# Altium footprint library st-microelectronics.PCBLIB: 49 footprints (part 1 of 4)
Each footprint in its own frame and in the unit in brackets; x right, y up, seen from the top. Pads: shape width x height; smd on the part's side, far side on the other; paste and mask are expansions set on the pad; w line width, h text height; cw(c..) or ccw(c..) is an arc to the next point about the centre after c.
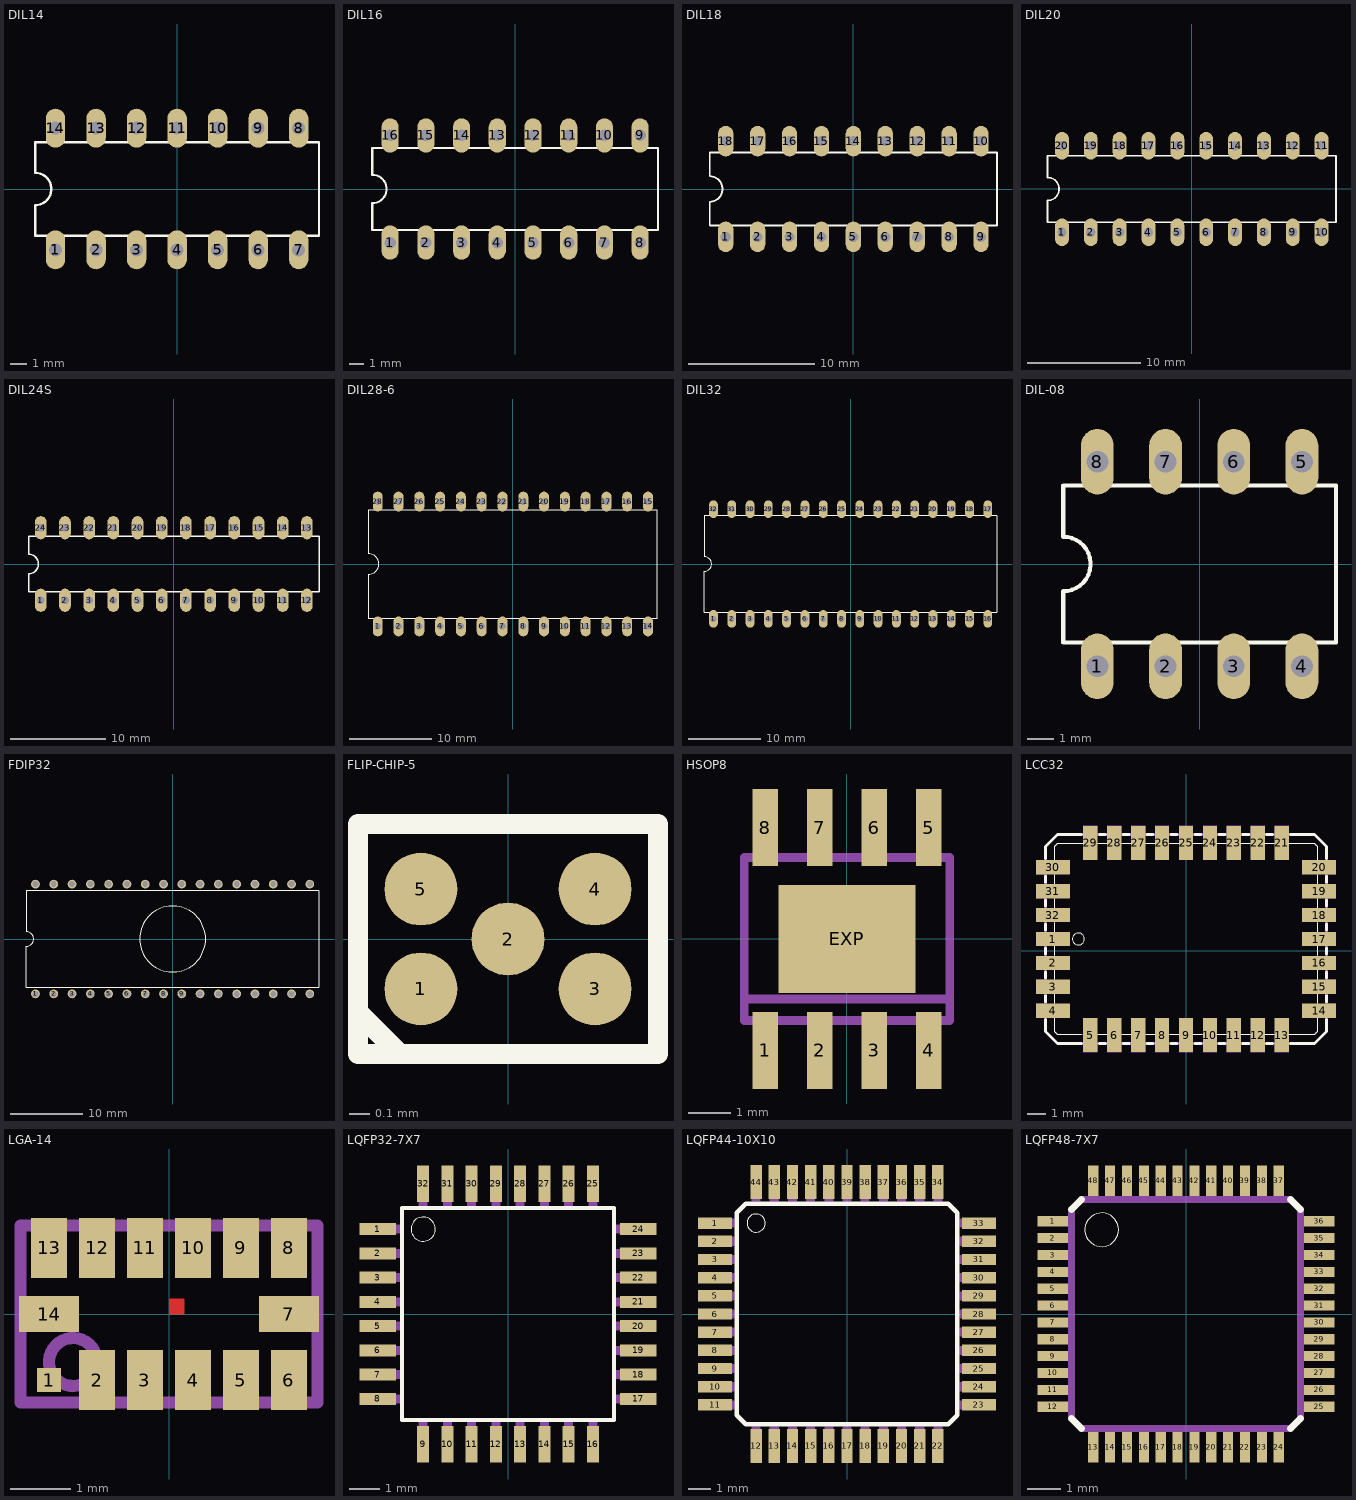
[diagram p0: the footprints below, top view; thin cyan lines are the x and y axes]

## DIL14 [mil]
pads (14):
  oval 48x96 hole 32: 1(-300,-150) 2(-200,-150) 3(-100,-150) 4(0,-150) 5(100,-150) 6(200,-150) 7(300,-150) 8(300,150) 9(200,150) 10(100,150) 11(0,150) 12(-100,150) 13(-200,150) 14(-300,150)
Top Overlay:
  lines w6: -350,-115 350,-115 350,115 -350,115 -350,40 cw(c-350,0) -350,-40 -350,-115

## DIL16 [mil]
pads (16):
  oval 48x96 hole 32: 1(-350,-150) 2(-250,-150) 3(-150,-150) 4(-50,-150) 5(50,-150) 6(150,-150) 7(250,-150) 8(350,-150) 9(350,150) 10(250,150) 11(150,150) 12(50,150) 13(-50,150) 14(-150,150) 15(-250,150) 16(-350,150)
Top Overlay:
  lines w6: -400,-115 400,-115 400,115 -400,115 -400,40 cw(c-400,0) -400,-40 -400,-115

## DIL18 [mil]
pads (18):
  oval 48x96 hole 32: 1(-400,-150) 2(-300,-150) 3(-200,-150) 4(-100,-150) 5(0,-150) 6(100,-150) 7(200,-150) 8(300,-150) 9(400,-150) 10(400,150) 11(300,150) 12(200,150) 13(100,150) 14(0,150) 15(-100,150) 16(-200,150) 17(-300,150) 18(-400,150)
Top Overlay:
  lines w6: -450,-115 450,-115 450,115 -450,115 -450,40 cw(c-450,0) -450,-40 -450,-115

## DIL20 [mil]
pads (20):
  oval 48x96 hole 32: 1(-450,-150) 2(-350,-150) 3(-250,-150) 4(-150,-150) 5(-50,-150) 6(50,-150) 7(150,-150) 8(250,-150) 9(350,-150) 10(450,-150) 11(450,150) 12(350,150) 13(250,150) 14(150,150) 15(50,150) 16(-50,150) 17(-150,150) 18(-250,150) 19(-350,150) 20(-450,150)
Top Overlay:
  lines w6: -500,-115 500,-115 500,115 -500,115 -500,40 cw(c-500,0) -500,-40 -500,-115

## DIL24S [mil]
pads (24):
  oval 48x96 hole 32: 1(-550,-150) 2(-450,-150) 3(-350,-150) 4(-250,-150) 5(-150,-150) 6(-50,-150) 7(50,-150) 8(150,-150) 9(250,-150) 10(350,-150) 11(450,-150) 12(550,-150) 13(550,150) 14(450,150) 15(350,150) 16(250,150) 17(150,150) 18(50,150) 19(-50,150) 20(-150,150) 21(-250,150) 22(-350,150) 23(-450,150) 24(-550,150)
Top Overlay:
  lines w6: -600,-115 600,-115 600,115 -600,115 -600,40 cw(c-600,0) -600,-40 -600,-115

## DIL28-6 [mil]
pads (28):
  oval 48x96 hole 32: 1(-650,-300) 2(-550,-300) 3(-450,-300) 4(-350,-300) 5(-250,-300) 6(-150,-300) 7(-50,-300) 8(50,-300) 9(150,-300) 10(250,-300) 11(350,-300) 12(450,-300) 13(550,-300) 14(650,-300) 15(650,300) 16(550,300) 17(450,300) 18(350,300) 19(250,300) 20(150,300) 21(50,300) 22(-50,300) 23(-150,300) 24(-250,300) 25(-350,300) 26(-450,300) 27(-550,300) 28(-650,300)
Top Overlay:
  lines w6: -695,-260 -695,-50 ccw(c-695,0) -695,50 -695,260 695,260 695,-260 -695,-260

## DIL32 [mil]
pads (32):
  oval 48x96 hole 32: 1(-750,-300) 2(-650,-300) 3(-550,-300) 4(-450,-300) 5(-350,-300) 6(-250,-300) 7(-150,-300) 8(-50,-300) 9(50,-300) 10(150,-300) 11(250,-300) 12(350,-300) 13(450,-300) 14(550,-300) 15(650,-300) 16(750,-300) 17(750,300) 18(650,300) 19(550,300) 20(450,300) 21(350,300) 22(250,300) 23(150,300) 24(50,300) 25(-50,300) 26(-150,300) 27(-250,300) 28(-350,300) 29(-450,300) 30(-550,300) 31(-650,300) 32(-750,300)
Top Overlay:
  lines w6: -800,-265 800,-265 800,265 -800,265 -800,40 cw(c-800,0) -800,-40 -800,-265

## DIL-08 [mil]
pads (8):
  oval 48x96 hole 32: 1(-150,-150) 2(-50,-150) 3(50,-150) 4(150,-150) 5(150,150) 6(50,150) 7(-50,150) 8(-150,150)
Top Overlay:
  lines w6: -200,-115 200,-115 200,115 -200,115 -200,40 cw(c-200,0) -200,-40 -200,-115

## FDIP32 [mil]
pads (32):
  round 48 hole 32: 1(-750,-300) 2(-650,-300) 3(-550,-300) 4(-450,-300) 5(-350,-300) 6(-250,-300) 7(-150,-300) 8(-50,-300) 9(50,-300) 10(150,-300) 11(250,-300) 12(350,-300) 13(450,-300) 14(550,-300) 15(650,-300) 16(750,-300) 17(750,300) 18(650,300) 19(550,300) 20(450,300) 21(350,300) 22(250,300) 23(150,300) 24(50,300) 25(-50,300) 26(-150,300) 27(-250,300) 28(-350,300) 29(-450,300) 30(-550,300) 31(-650,300) 32(-750,300)
Top Overlay:
  circle w0: c0,0 r180.28
  lines w6: -800,-265 800,-265 800,265 -800,265 -800,40 cw(c-800,0) -800,-40 -800,-265

## FLIP-CHIP-5 [mm]
pads (5):
  rrect100% 0.365x0.365 smd: 1(-0.435,-0.25) 2(0,0) 3(0.435,-0.25) 4(0.435,0.25) 5(-0.435,0.25)
Top Overlay:
  lines w0.102: -0.55,-0.567 -0.75,-0.368 ; -0.75,-0.368 -0.75,-0.575 0.75,-0.575 0.75,0.575 -0.75,0.575 -0.75,-0.368
Top Solder:
  circle w0: c0,0 r0.213
  circle w0: c0.435,0.25 r0.213
  circle w0: c0.435,-0.25 r0.213
  circle w0: c-0.435,0.25 r0.213
  circle w0: c-0.435,-0.25 r0.213

## HSOP8 [mil]
pads (9):
  rect 23.62x70.87 smd: 1(-75,-102.36) 2(-25,-102.36) 3(25,-102.36) 4(75,-102.36) 5(75,102.36) 6(25,102.36) 7(-25,102.36) 8(-75,102.36)
  rect 125.98x98.82 smd: EXP(0,0)
Mechanical 16:
  rectangle: -84.65,-122.05 -65.35,-78.74
  rectangle: -34.65,-122.05 -15.35,-78.74
  rectangle: 15.35,-122.05 34.65,-78.74
  rectangle: 65.35,-122.05 84.65,-78.74
  rectangle: 65.35,78.74 84.65,122.05
  rectangle: 15.35,78.74 34.65,122.05
  rectangle: -34.65,78.74 -15.35,122.05
  rectangle: -84.65,78.74 -65.35,122.05
  lines w8: -94.49,-55.12 -94.49,-74.8 94.49,-74.8 94.49,-55.12 ; -94.49,-55.12 -94.49,74.8 94.49,74.8 94.49,-55.12 ; -94.49,-55.12 94.49,-55.12

## LCC32 [mil]
pads (32):
  rect 70.87x29.92 smd: 1(-278.35,25) 2(-278.35,-25) 3(-278.35,-75) 4(-278.35,-125) 14(278.35,-125) 15(278.35,-75) 16(278.35,-25) 17(278.35,25) 18(278.35,75) 19(278.35,125) 20(278.35,175) 30(-278.35,175) 31(-278.35,125) 32(-278.35,75)
  rect 29.92x70.87 smd: 5(-200,-175.98) 6(-150,-175.98) 7(-100,-175.98) 8(-50,-175.98) 9(0,-175.98) 10(50,-175.98) 11(100,-175.98) 12(150,-175.98) 13(200,-175.98) 21(200,225.98) 22(150,225.98) 23(100,225.98) 24(50,225.98) 25(0,225.98) 26(-50,225.98) 27(-100,225.98) 28(-150,225.98) 29(-200,225.98)
Top Overlay:
  circle w2: c-225,25 r12.5
  lines w2: -275,-140.63 -275,-168.74 -268.74,-175 -218.74,-175 ; -275,-109.37 -275,-90.63 ; -275,-59.37 -275,-40.63 ; -275,-9.37 -275,9.37 ; -275,40.63 -275,59.37 ; -275,90.63 -275,109.37 ; -275,140.63 -275,159.37 ; -275,190.63 -275,218.74 -268.74,225 -215.63,225 ; -184.37,-175 -165.63,-175 ; -184.37,225 -165.63,225 ; -134.37,-175 -115.63,-175 ; -134.37,225 -115.63,225 ; -84.37,-175 -65.63,-175 ; -84.37,225 -65.63,225 ; -34.37,-175 -15.63,-175 ; -34.37,225 -15.63,225 ; 15.63,-175 34.37,-175 ; 15.63,225 34.37,225 ; 65.63,-175 84.37,-175 ; 65.63,225 84.37,225 ; 115.63,-175 134.37,-175 ; 115.63,225 134.37,225 ; 165.63,-175 184.37,-175 ; 165.63,225 184.37,225 ; 215.63,-175 268.74,-175 275,-168.74 275,-140.63 ; 215.63,225 268.74,225 275,218.74 275,190.63 ; 275,-109.37 275,-90.63 ; 275,-59.37 275,-40.63 ; 275,-9.37 275,9.37 ; 275,40.63 275,59.37 ; 275,90.63 275,109.37 ; 275,140.63 275,159.37
  lines w6: -293.74,-143.74 -293.74,-168.74 -268.74,-193.74 -218.74,-193.74 ; -293.74,-106.26 -293.74,-93.74 ; -293.74,-56.26 -293.74,-43.74 ; -293.74,-6.26 -293.75,6.25 ; -293.74,43.74 -293.75,56.25 ; -293.74,93.74 -293.75,106.25 ; -293.74,143.74 -293.75,156.25 ; -293.75,193.75 -293.75,218.75 -268.75,243.75 -218.75,243.75 ; -181.26,-193.74 -168.74,-193.74 ; -181.25,243.75 -168.75,243.75 ; -131.26,-193.74 -118.74,-193.74 ; -131.25,243.75 -118.75,243.75 ; -81.26,-193.74 -68.74,-193.74 ; -81.25,243.75 -68.75,243.75 ; -31.26,-193.74 -18.74,-193.74 ; -31.25,243.75 -18.75,243.75 ; 18.75,-193.75 31.25,-193.75 ; 18.74,243.74 31.26,243.74 ; 68.75,-193.75 81.25,-193.75 ; 68.74,243.74 81.26,243.74 ; 118.75,-193.75 131.25,-193.75 ; 118.74,243.74 131.26,243.74 ; 168.75,-193.75 181.25,-193.75 ; 168.74,243.74 181.26,243.74 ; 218.75,-193.75 268.75,-193.75 293.75,-168.75 293.75,-143.75 ; 218.74,243.74 268.74,243.74 293.74,218.74 293.74,193.74 ; 293.75,-106.25 293.75,-93.75 ; 293.75,-56.25 293.75,-43.75 ; 293.75,-6.25 293.74,6.26 ; 293.75,43.75 293.74,56.26 ; 293.75,93.75 293.74,106.26 ; 293.75,143.75 293.74,156.26
Mechanical 16:
  rectangle: -114.96,244.88 -85.04,262.6
  rectangle: -64.96,244.88 -35.04,262.6
  rectangle: -14.96,244.88 14.96,262.6
  rectangle: 35.04,244.88 64.96,262.6
  rectangle: 85.04,244.88 114.96,262.6
  rectangle: -114.96,-212.6 -85.04,-194.88
  rectangle: -64.96,-212.6 -35.04,-194.88
  rectangle: -14.96,-212.6 14.96,-194.88
  rectangle: 35.04,-212.6 64.96,-194.88
  rectangle: 85.04,-212.6 114.96,-194.88
  rectangle: 296.06,110.04 313.78,139.96
  rectangle: 296.06,10.04 313.78,39.96
  rectangle: 296.06,-39.96 313.78,-10.04
  rectangle: 296.06,-89.96 313.78,-60.04
  rectangle: -313.78,110.04 -296.06,139.96
  rectangle: -313.78,10.04 -296.06,39.96
  rectangle: -313.78,-39.96 -296.06,-10.04
  rectangle: -313.78,-89.96 -296.06,-60.04
  rectangle: 135.04,244.88 164.96,262.6
  rectangle: 135.04,-212.6 164.96,-194.88
  rectangle: -214.96,244.88 -185.04,262.6
  rectangle: -164.96,244.88 -135.04,262.6
  rectangle: -214.96,-212.6 -185.04,-194.88
  rectangle: -164.96,-212.6 -135.04,-194.88
  rectangle: 296.06,60.04 313.78,89.96
  rectangle: -313.78,60.04 -296.06,89.96
  rectangle: 185.04,244.88 214.96,262.6
  rectangle: 185.04,-212.6 214.96,-194.88
  rectangle: 296.06,160.04 313.78,189.96
  rectangle: -313.78,160.04 -296.06,189.96
  rectangle: 296.06,-139.96 313.78,-110.04
  rectangle: -313.78,-139.96 -296.06,-110.04
  lines w2: -275,-168.74 -268.74,-175 268.74,-175 275,-168.74 275,218.74 268.74,225 -268.74,225 -275,218.74 -275,-168.74
  lines w6: 37.4,244.88 62.6,244.88 ; 87.4,244.88 112.6,244.88 ; 137.4,244.88 162.6,244.88 ; 187.4,244.88 212.6,244.88 ; -293.74,-168.74 -268.74,-193.74 268.75,-193.75 293.75,-168.75 293.74,218.74 268.74,243.74 -268.75,243.75 -293.75,218.75 -293.74,-168.74

## LGA-14 [mm]
pads (14):
  rect 0.4x0.4 smd: 1(-2,-1.1)
  rect 0.6x1 smd: 2(-1.2,-1.1) 3(-0.4,-1.1) 4(0.4,-1.1) 5(1.2,-1.1) 6(2,-1.1) 8(2,1.1) 9(1.2,1.1) 10(0.4,1.1) 11(-0.4,1.1) 12(-1.2,1.1) 13(-2,1.1)
  rect 1x0.6 smd: 7(2,0) 14(-2,0)
Top Layer:
  region: 0,0 0.254,0 0.254,0.254 0,0.254
Top Paste:
  rectangle: -2.25,-1.5 -1.75,-0.7
  rectangle: -2.4,-0.25 -1.6,0.25
  rectangle: -1.45,-1.5 -0.95,-0.7
  rectangle: -0.65,-1.5 -0.15,-0.7
  rectangle: 0.15,-1.5 0.65,-0.7
  rectangle: 0.95,-1.5 1.45,-0.7
  rectangle: 1.75,-1.5 2.25,-0.7
  region: 2.25,1.5 1.75,1.5 1.75,0.7 2.25,0.7
  region: 1.45,1.5 0.95,1.5 0.95,0.7 1.45,0.7
  region: 0.65,1.5 0.15,1.5 0.15,0.7 0.65,0.7
  region: -0.15,1.5 -0.65,1.5 -0.65,0.7 -0.15,0.7
  region: -0.95,1.5 -1.45,1.5 -1.45,0.7 -0.95,0.7
  region: -1.75,1.5 -2.25,1.5 -2.25,0.7 -1.75,0.7
  region: 2.4,0.25 1.6,0.25 1.6,-0.25 2.4,-0.25
Top Solder:
  rectangle: -1.55,-1.65 -0.85,-0.55
  rectangle: -0.75,-1.65 -0.05,-0.55
  rectangle: 0.05,-1.65 0.75,-0.55
  rectangle: 0.85,-1.65 1.55,-0.55
  rectangle: 1.65,-1.65 2.35,-0.55
  region: 2.35,1.65 1.65,1.65 1.65,0.55 2.35,0.55
  region: 1.55,1.65 0.85,1.65 0.85,0.55 1.55,0.55
  region: 0.75,1.65 0.05,1.65 0.05,0.55 0.75,0.55
  region: -0.05,1.65 -0.75,1.65 -0.75,0.55 -0.05,0.55
  region: -0.85,1.65 -1.55,1.65 -1.55,0.55 -0.85,0.55
  region: -1.65,1.65 -2.35,1.65 -2.35,0.55 -1.65,0.55
  region: 1.45,0.35 1.45,-0.35 2.55,-0.35 2.55,0.35
  region: -1.45,-0.35 -1.45,0.35 -2.55,0.35 -2.55,-0.35
  region: 0,0 0.254,0 0.254,0.254 0,0.254
Mechanical 16:
  circle w0.203: c-1.6,-0.8 r0.4
  lines w0.203: -2.475,-1.475 2.475,-1.475 2.475,1.475 -2.475,1.475 -2.475,-1.475

## LQFP32-7X7 [mm]
pads (32):
  rect 1.2x0.4 smd: 1(-4.3,2.8) 2(-4.3,2) 3(-4.3,1.2) 4(-4.3,0.4) 5(-4.3,-0.4) 6(-4.3,-1.2) 7(-4.3,-2) 8(-4.3,-2.8) 17(4.3,-2.8) 18(4.3,-2) 19(4.3,-1.2) 20(4.3,-0.4) 21(4.3,0.4) 22(4.3,1.2) 23(4.3,2) 24(4.3,2.8)
  rect 0.4x1.2 smd: 9(-2.8,-4.3) 10(-2,-4.3) 11(-1.2,-4.3) 12(-0.4,-4.3) 13(0.4,-4.3) 14(1.2,-4.3) 15(2,-4.3) 16(2.8,-4.3) 25(2.8,4.3) 26(2,4.3) 27(1.2,4.3) 28(0.4,4.3) 29(-0.4,4.3) 30(-1.2,4.3) 31(-2,4.3) 32(-2.8,4.3)
Top Overlay:
  circle w0: c-2.8,2.8 r0.4
  lines w0.127: -3.5,-3.5 3.5,-3.5 3.5,3.5 -3.5,3.5 -3.5,-3.5
Top Paste:
  rectangle: -4.875,2.625 -3.725,2.975
  rectangle: -4.875,1.825 -3.725,2.175
  rectangle: -4.875,1.025 -3.725,1.375
  rectangle: -4.875,0.225 -3.725,0.575
  rectangle: -4.875,-0.575 -3.725,-0.225
  rectangle: -4.875,-1.375 -3.725,-1.025
  rectangle: -4.875,-2.175 -3.725,-1.825
  rectangle: -4.875,-2.975 -3.725,-2.625
  region: -2.625,-4.875 -2.625,-3.725 -2.975,-3.725 -2.975,-4.875
  region: -1.825,-4.875 -1.825,-3.725 -2.175,-3.725 -2.175,-4.875
  region: -1.025,-4.875 -1.025,-3.725 -1.375,-3.725 -1.375,-4.875
  region: -0.225,-4.875 -0.225,-3.725 -0.575,-3.725 -0.575,-4.875
  region: 0.575,-4.875 0.575,-3.725 0.225,-3.725 0.225,-4.875
  region: 1.375,-4.875 1.375,-3.725 1.025,-3.725 1.025,-4.875
  region: 2.175,-4.875 2.175,-3.725 1.825,-3.725 1.825,-4.875
  region: 2.975,-4.875 2.975,-3.725 2.625,-3.725 2.625,-4.875
  region: 4.875,-2.625 3.725,-2.625 3.725,-2.975 4.875,-2.975
  region: 4.875,-1.825 3.725,-1.825 3.725,-2.175 4.875,-2.175
  region: 4.875,-1.025 3.725,-1.025 3.725,-1.375 4.875,-1.375
  region: 4.875,-0.225 3.725,-0.225 3.725,-0.575 4.875,-0.575
  region: 4.875,0.575 3.725,0.575 3.725,0.225 4.875,0.225
  region: 4.875,1.375 3.725,1.375 3.725,1.025 4.875,1.025
  region: 4.875,2.175 3.725,2.175 3.725,1.825 4.875,1.825
  region: 4.875,2.975 3.725,2.975 3.725,2.625 4.875,2.625
  region: 2.625,4.875 2.625,3.725 2.975,3.725 2.975,4.875
  region: 1.825,4.875 1.825,3.725 2.175,3.725 2.175,4.875
  region: 1.025,4.875 1.025,3.725 1.375,3.725 1.375,4.875
  region: 0.225,4.875 0.225,3.725 0.575,3.725 0.575,4.875
  region: -0.575,4.875 -0.575,3.725 -0.225,3.725 -0.225,4.875
  region: -1.375,4.875 -1.375,3.725 -1.025,3.725 -1.025,4.875
  region: -2.175,4.875 -2.175,3.725 -1.825,3.725 -1.825,4.875
  region: -2.975,4.875 -2.975,3.725 -2.625,3.725 -2.625,4.875
Top Solder:
  rectangle: -4.95,2.55 -3.65,3.05
  rectangle: -4.95,1.75 -3.65,2.25
  rectangle: -4.95,0.95 -3.65,1.45
  rectangle: -4.95,0.15 -3.65,0.65
  rectangle: -4.95,-0.65 -3.65,-0.15
  rectangle: -4.95,-1.45 -3.65,-0.95
  rectangle: -4.95,-2.25 -3.65,-1.75
  rectangle: -4.95,-3.05 -3.65,-2.55
  region: -2.55,-4.95 -2.55,-3.65 -3.05,-3.65 -3.05,-4.95
  region: -1.75,-4.95 -1.75,-3.65 -2.25,-3.65 -2.25,-4.95
  region: -0.95,-4.95 -0.95,-3.65 -1.45,-3.65 -1.45,-4.95
  region: -0.15,-4.95 -0.15,-3.65 -0.65,-3.65 -0.65,-4.95
  region: 0.65,-4.95 0.65,-3.65 0.15,-3.65 0.15,-4.95
  region: 1.45,-4.95 1.45,-3.65 0.95,-3.65 0.95,-4.95
  region: 2.25,-4.95 2.25,-3.65 1.75,-3.65 1.75,-4.95
  region: 3.05,-4.95 3.05,-3.65 2.55,-3.65 2.55,-4.95
  region: 4.95,-2.55 3.65,-2.55 3.65,-3.05 4.95,-3.05
  region: 4.95,-1.75 3.65,-1.75 3.65,-2.25 4.95,-2.25
  region: 4.95,-0.95 3.65,-0.95 3.65,-1.45 4.95,-1.45
  region: 4.95,-0.15 3.65,-0.15 3.65,-0.65 4.95,-0.65
  region: 4.95,0.65 3.65,0.65 3.65,0.15 4.95,0.15
  region: 4.95,1.45 3.65,1.45 3.65,0.95 4.95,0.95
  region: 4.95,2.25 3.65,2.25 3.65,1.75 4.95,1.75
  region: 4.95,3.05 3.65,3.05 3.65,2.55 4.95,2.55
  region: 2.55,4.95 2.55,3.65 3.05,3.65 3.05,4.95
  region: 1.75,4.95 1.75,3.65 2.25,3.65 2.25,4.95
  region: 0.95,4.95 0.95,3.65 1.45,3.65 1.45,4.95
  region: 0.15,4.95 0.15,3.65 0.65,3.65 0.65,4.95
  region: -0.65,4.95 -0.65,3.65 -0.15,3.65 -0.15,4.95
  region: -1.45,4.95 -1.45,3.65 -0.95,3.65 -0.95,4.95
  region: -2.25,4.95 -2.25,3.65 -1.75,3.65 -1.75,4.95
  region: -3.05,4.95 -3.05,3.65 -2.55,3.65 -2.55,4.95
Mechanical 16:
  rectangle: -4.5,2.65 -3.525,2.95
  rectangle: -4.5,1.85 -3.525,2.15
  rectangle: -4.5,1.05 -3.525,1.35
  rectangle: -4.5,0.25 -3.525,0.55
  rectangle: -4.5,-0.55 -3.525,-0.25
  rectangle: -4.5,-1.35 -3.525,-1.05
  rectangle: -4.5,-2.15 -3.525,-1.85
  rectangle: -4.5,-2.95 -3.525,-2.65
  region: -2.65,-4.5 -2.65,-3.525 -2.95,-3.525 -2.95,-4.5
  region: -1.85,-4.5 -1.85,-3.525 -2.15,-3.525 -2.15,-4.5
  region: -1.05,-4.5 -1.05,-3.525 -1.35,-3.525 -1.35,-4.5
  region: -0.25,-4.5 -0.25,-3.525 -0.55,-3.525 -0.55,-4.5
  region: 0.55,-4.5 0.55,-3.525 0.25,-3.525 0.25,-4.5
  region: 1.35,-4.5 1.35,-3.525 1.05,-3.525 1.05,-4.5
  region: 2.15,-4.5 2.15,-3.525 1.85,-3.525 1.85,-4.5
  region: 2.95,-4.5 2.95,-3.525 2.65,-3.525 2.65,-4.5
  region: 4.5,-2.65 3.525,-2.65 3.525,-2.95 4.5,-2.95
  region: 4.5,-1.85 3.525,-1.85 3.525,-2.15 4.5,-2.15
  region: 4.5,-1.05 3.525,-1.05 3.525,-1.35 4.5,-1.35
  region: 4.5,-0.25 3.525,-0.25 3.525,-0.55 4.5,-0.55
  region: 4.5,0.55 3.525,0.55 3.525,0.25 4.5,0.25
  region: 4.5,1.35 3.525,1.35 3.525,1.05 4.5,1.05
  region: 4.5,2.15 3.525,2.15 3.525,1.85 4.5,1.85
  region: 4.5,2.95 3.525,2.95 3.525,2.65 4.5,2.65
  region: 2.65,4.5 2.65,3.525 2.95,3.525 2.95,4.5
  region: 1.85,4.5 1.85,3.525 2.15,3.525 2.15,4.5
  region: 1.05,4.5 1.05,3.525 1.35,3.525 1.35,4.5
  region: 0.25,4.5 0.25,3.525 0.55,3.525 0.55,4.5
  region: -0.55,4.5 -0.55,3.525 -0.25,3.525 -0.25,4.5
  region: -1.35,4.5 -1.35,3.525 -1.05,3.525 -1.05,4.5
  region: -2.15,4.5 -2.15,3.525 -1.85,3.525 -1.85,4.5
  region: -2.95,4.5 -2.95,3.525 -2.65,3.525 -2.65,4.5

## LQFP44-10X10 [mil]
pads (44):
  rect 59.06x19.69 smd: 1(-228.35,157.48) 2(-228.35,125.98) 3(-228.35,94.49) 4(-228.35,62.99) 5(-228.35,31.5) 6(-228.35,0) 7(-228.35,-31.5) 8(-228.35,-62.99) 9(-228.35,-94.49) 10(-228.35,-125.98) 11(-228.35,-157.48) 23(228.35,-157.48) 24(228.35,-125.98) 25(228.35,-94.49) 26(228.35,-62.99) 27(228.35,-31.5) 28(228.35,0) 29(228.35,31.5) 30(228.35,62.99) 31(228.35,94.49) 32(228.35,125.98) 33(228.35,157.48)
  rect 19.69x59.06 smd: 12(-157.48,-228.35) 13(-125.98,-228.35) 14(-94.49,-228.35) 15(-62.99,-228.35) 16(-31.5,-228.35) 17(0,-228.35) 18(31.5,-228.35) 19(62.99,-228.35) 20(94.49,-228.35) 21(125.98,-228.35) 22(157.48,-228.35) 34(157.48,228.35) 35(125.98,228.35) 36(94.49,228.35) 37(62.99,228.35) 38(31.5,228.35) 39(0,228.35) 40(-31.5,228.35) 41(-62.99,228.35) 42(-94.49,228.35) 43(-125.98,228.35) 44(-157.48,228.35)
Top Overlay:
  circle w0: c-157.48,157.48 r15.75
  lines w8: -190.94,-175.2 -175.2,-190.94 175.2,-190.94 190.94,-175.2 190.94,175.2 175.2,190.94 -175.2,190.94 -190.94,175.2 -190.94,-175.2
Top Paste:
  rectangle: -255.91,148.62 -200.79,166.34
  rectangle: -255.91,117.13 -200.79,134.84
  rectangle: -255.91,85.63 -200.79,103.35
  rectangle: -255.91,54.13 -200.79,71.85
  rectangle: -255.91,22.64 -200.79,40.35
  rectangle: -255.91,-8.86 -200.79,8.86
  rectangle: -255.91,-40.35 -200.79,-22.64
  rectangle: -255.91,-71.85 -200.79,-54.13
  rectangle: -255.91,-103.35 -200.79,-85.63
  rectangle: -255.91,-134.84 -200.79,-117.13
  rectangle: -255.91,-166.34 -200.79,-148.62
  region: -148.62,-255.91 -148.62,-200.78 -166.33,-200.78 -166.33,-255.91
  region: -117.13,-255.9 -117.13,-200.79 -134.84,-200.79 -134.84,-255.9
  region: -85.64,-255.91 -85.64,-200.78 -103.34,-200.78 -103.34,-255.91
  region: -54.14,-255.91 -54.14,-200.78 -71.84,-200.78 -71.84,-255.91
  region: -22.65,-255.91 -22.65,-200.78 -40.35,-200.78 -40.35,-255.91
  region: 8.85,-255.91 8.85,-200.78 -8.85,-200.78 -8.85,-255.91
  region: 40.35,-255.91 40.35,-200.78 22.65,-200.78 22.65,-255.91
  region: 71.84,-255.91 71.84,-200.78 54.14,-200.78 54.14,-255.91
  region: 103.34,-255.91 103.34,-200.78 85.64,-200.78 85.64,-255.91
  region: 134.84,-255.9 134.84,-200.79 117.13,-200.79 117.13,-255.9
  region: 166.33,-255.91 166.33,-200.78 148.62,-200.78 148.62,-255.91
  region: 255.91,-148.62 200.79,-148.62 200.79,-166.34 255.91,-166.34
  region: 255.91,-117.13 200.79,-117.13 200.79,-134.84 255.91,-134.84
  region: 255.91,-85.63 200.79,-85.63 200.79,-103.35 255.91,-103.35
  region: 255.91,-54.13 200.79,-54.13 200.79,-71.85 255.91,-71.85
  region: 255.91,-22.64 200.79,-22.64 200.79,-40.35 255.91,-40.35
  region: 255.91,8.86 200.79,8.86 200.79,-8.86 255.91,-8.86
  region: 255.91,40.35 200.79,40.35 200.79,22.64 255.91,22.64
  region: 255.91,71.85 200.79,71.85 200.79,54.13 255.91,54.13
  region: 255.91,103.35 200.79,103.35 200.79,85.63 255.91,85.63
  region: 255.91,134.84 200.79,134.84 200.79,117.13 255.91,117.13
  region: 255.91,166.34 200.79,166.34 200.79,148.62 255.91,148.62
  region: 148.62,255.91 148.62,200.78 166.33,200.78 166.33,255.91
  region: 117.13,255.9 117.13,200.79 134.84,200.79 134.84,255.9
  region: 85.64,255.91 85.64,200.78 103.34,200.78 103.34,255.91
  region: 54.14,255.91 54.13,200.78 71.84,200.78 71.84,255.91
  region: 22.65,255.91 22.65,200.78 40.35,200.78 40.35,255.91
  region: -8.85,255.91 -8.85,200.78 8.85,200.78 8.85,255.91
  region: -40.35,255.91 -40.35,200.78 -22.65,200.78 -22.65,255.91
  region: -71.84,255.91 -71.84,200.78 -54.14,200.78 -54.13,255.91
  region: -103.34,255.91 -103.34,200.78 -85.64,200.78 -85.64,255.91
  region: -134.84,255.9 -134.84,200.79 -117.13,200.79 -117.13,255.9
  region: -166.33,255.91 -166.33,200.78 -148.62,200.78 -148.62,255.91
Top Solder:
  rectangle: -259.84,145.67 -196.85,169.29
  rectangle: -259.84,114.17 -196.85,137.8
  rectangle: -259.84,82.68 -196.85,106.3
  rectangle: -259.84,51.18 -196.85,74.8
  rectangle: -259.84,19.69 -196.85,43.31
  rectangle: -259.84,-11.81 -196.85,11.81
  rectangle: -259.84,-43.31 -196.85,-19.69
  rectangle: -259.84,-74.8 -196.85,-51.18
  rectangle: -259.84,-106.3 -196.85,-82.68
  rectangle: -259.84,-137.8 -196.85,-114.17
  rectangle: -259.84,-169.29 -196.85,-145.67
  region: -145.67,-259.85 -145.67,-196.85 -169.29,-196.85 -169.29,-259.85
  region: -114.17,-259.84 -114.17,-196.85 -137.79,-196.85 -137.79,-259.84
  region: -82.67,-259.84 -82.67,-196.85 -106.3,-196.85 -106.3,-259.84
  region: -51.18,-259.84 -51.18,-196.85 -74.81,-196.85 -74.81,-259.84
  region: -19.69,-259.84 -19.68,-196.85 -43.3,-196.85 -43.31,-259.84
  region: 11.81,-259.85 11.81,-196.85 -11.81,-196.85 -11.81,-259.85
  region: 43.3,-259.84 43.31,-196.85 19.69,-196.85 19.68,-259.84
  region: 74.81,-259.84 74.81,-196.85 51.18,-196.85 51.18,-259.84
  region: 106.3,-259.84 106.3,-196.85 82.67,-196.85 82.67,-259.84
  region: 137.79,-259.84 137.79,-196.85 114.17,-196.85 114.17,-259.84
  region: 169.29,-259.85 169.29,-196.85 145.67,-196.85 145.67,-259.85
  region: 259.84,-145.67 196.85,-145.67 196.85,-169.29 259.84,-169.29
  region: 259.84,-114.17 196.85,-114.17 196.85,-137.8 259.84,-137.8
  region: 259.84,-82.68 196.85,-82.68 196.85,-106.3 259.84,-106.3
  region: 259.84,-51.18 196.85,-51.18 196.85,-74.8 259.84,-74.8
  region: 259.84,-19.69 196.85,-19.69 196.85,-43.31 259.84,-43.31
  region: 259.84,11.81 196.85,11.81 196.85,-11.81 259.84,-11.81
  region: 259.84,43.31 196.85,43.31 196.85,19.69 259.84,19.69
  region: 259.84,74.8 196.85,74.8 196.85,51.18 259.84,51.18
  region: 259.84,106.3 196.85,106.3 196.85,82.68 259.84,82.68
  region: 259.84,137.8 196.85,137.8 196.85,114.17 259.84,114.17
  region: 259.84,169.29 196.85,169.29 196.85,145.67 259.84,145.67
  region: 145.67,259.85 145.67,196.85 169.29,196.85 169.29,259.85
  region: 114.17,259.84 114.17,196.85 137.79,196.85 137.79,259.84
  region: 82.67,259.84 82.67,196.85 106.3,196.85 106.3,259.84
  region: 51.19,259.84 51.18,196.85 74.8,196.85 74.81,259.84
  region: 19.69,259.84 19.68,196.85 43.3,196.85 43.31,259.84
  region: -11.81,259.85 -11.81,196.85 11.81,196.85 11.81,259.85
  region: -43.3,259.84 -43.31,196.85 -19.69,196.85 -19.68,259.84
  region: -74.8,259.84 -74.81,196.85 -51.19,196.85 -51.18,259.84
  region: -106.3,259.84 -106.3,196.85 -82.67,196.85 -82.67,259.84
  region: -137.79,259.84 -137.79,196.85 -114.17,196.85 -114.17,259.84
  region: -169.29,259.85 -169.29,196.85 -145.67,196.85 -145.67,259.85
Mechanical 16:
  rectangle: -240.16,149.61 -194.88,165.35
  rectangle: -240.16,118.11 -194.88,133.86
  rectangle: -240.16,86.61 -194.88,102.36
  rectangle: -240.16,55.12 -194.88,70.87
  rectangle: -240.16,23.62 -194.88,39.37
  rectangle: -240.16,-7.87 -194.88,7.87
  rectangle: -240.16,-39.37 -194.88,-23.62
  rectangle: -240.16,-70.87 -194.88,-55.12
  rectangle: -240.16,-102.36 -194.88,-86.61
  rectangle: -240.16,-133.86 -194.88,-118.11
  rectangle: -240.16,-165.35 -194.88,-149.61
  rectangle: -165.35,-240.16 -149.61,-194.88
  rectangle: -133.86,-240.16 -118.11,-194.88
  rectangle: -102.36,-240.16 -86.61,-194.88
  rectangle: -70.87,-240.16 -55.12,-194.88
  rectangle: -39.37,-240.16 -23.62,-194.88
  rectangle: -7.87,-240.16 7.87,-194.88
  rectangle: 23.62,-240.16 39.37,-194.88
  rectangle: 55.12,-240.16 70.87,-194.88
  rectangle: 86.61,-240.16 102.36,-194.88
  rectangle: 118.11,-240.16 133.86,-194.88
  rectangle: 149.61,-240.16 165.35,-194.88
  rectangle: 194.88,-165.35 240.16,-149.61
  rectangle: 194.88,-133.86 240.16,-118.11
  rectangle: 194.88,-102.36 240.16,-86.61
  rectangle: 194.88,-70.87 240.16,-55.12
  rectangle: 194.88,-39.37 240.16,-23.62
  rectangle: 194.88,-7.87 240.16,7.87
  rectangle: 194.88,23.62 240.16,39.37
  rectangle: 194.88,55.12 240.16,70.87
  rectangle: 194.88,86.61 240.16,102.36
  rectangle: 194.88,118.11 240.16,133.86
  rectangle: 194.88,149.61 240.16,165.35
  rectangle: 149.61,194.88 165.35,240.16
  rectangle: 118.11,194.88 133.86,240.16
  rectangle: 86.61,194.88 102.36,240.16
  rectangle: 55.12,194.88 70.87,240.16
  rectangle: 23.62,194.88 39.37,240.16
  rectangle: -7.87,194.88 7.87,240.16
  rectangle: -39.37,194.88 -23.62,240.16
  rectangle: -70.87,194.88 -55.12,240.16
  rectangle: -102.36,194.88 -86.61,240.16
  rectangle: -133.86,194.88 -118.11,240.16
  rectangle: -165.35,194.88 -149.61,240.16

## LQFP48-7X7 [mil]
pads (48):
  rect 35.43x11.81 smd: 1(-155.51,108.27) 2(-155.51,88.58) 3(-155.51,68.9) 4(-155.51,49.21) 5(-155.51,29.53) 6(-155.51,9.84) 7(-155.51,-9.84) 8(-155.51,-29.53) 9(-155.51,-49.21) 10(-155.51,-68.9) 11(-155.51,-88.58) 12(-155.51,-108.27) 25(155.51,-108.27) 26(155.51,-88.58) 27(155.51,-68.9) 28(155.51,-49.21) 29(155.51,-29.53) 30(155.51,-9.84) 31(155.51,9.84) 32(155.51,29.53) 33(155.51,49.21) 34(155.51,68.9) 35(155.51,88.58) 36(155.51,108.27)
  rect 11.81x35.43 smd: 13(-108.27,-155.51) 14(-88.58,-155.51) 15(-68.9,-155.51) 16(-49.21,-155.51) 17(-29.53,-155.51) 18(-9.84,-155.51) 19(9.84,-155.51) 20(29.53,-155.51) 21(49.21,-155.51) 22(68.9,-155.51) 23(88.58,-155.51) 24(108.27,-155.51) 37(108.27,155.51) 38(88.58,155.51) 39(68.9,155.51) 40(49.21,155.51) 41(29.53,155.51) 42(9.84,155.51) 43(-9.84,155.51) 44(-29.53,155.51) 45(-49.21,155.51) 46(-68.9,155.51) 47(-88.58,155.51) 48(-108.27,155.51)
Top Overlay:
  circle w0: c-98.43,98.43 r19.69
  lines w8: -133.86,-122.05 -122.05,-133.86 ; -133.86,122.05 -122.05,133.86 ; 122.05,-133.86 133.86,-122.05 ; 122.05,133.86 133.86,122.05
Top Paste:
  rectangle: -172.24,103.35 -138.78,113.19
  rectangle: -172.24,83.66 -138.78,93.5
  rectangle: -172.24,63.98 -138.78,73.82
  rectangle: -172.24,44.29 -138.78,54.13
  rectangle: -172.24,24.61 -138.78,34.45
  rectangle: -172.24,4.92 -138.78,14.76
  rectangle: -172.24,-14.76 -138.78,-4.92
  rectangle: -172.24,-34.45 -138.78,-24.61
  rectangle: -172.24,-54.13 -138.78,-44.29
  rectangle: -172.24,-73.82 -138.78,-63.98
  rectangle: -172.24,-93.5 -138.78,-83.66
  rectangle: -172.24,-113.19 -138.78,-103.35
  region: -103.35,-172.24 -103.35,-138.78 -113.19,-138.78 -113.19,-172.24
  region: -83.66,-172.25 -83.66,-138.77 -93.5,-138.77 -93.5,-172.25
  region: -63.98,-172.24 -63.98,-138.78 -73.82,-138.78 -73.82,-172.24
  region: -44.29,-172.24 -44.29,-138.78 -54.13,-138.78 -54.13,-172.24
  region: -24.61,-172.24 -24.61,-138.78 -34.45,-138.78 -34.45,-172.24
  region: -4.92,-172.24 -4.92,-138.78 -14.76,-138.78 -14.76,-172.24
  region: 14.76,-172.24 14.76,-138.78 4.92,-138.78 4.92,-172.24
  region: 34.45,-172.24 34.45,-138.78 24.61,-138.78 24.61,-172.24
  region: 54.13,-172.24 54.13,-138.78 44.29,-138.78 44.29,-172.24
  region: 73.82,-172.24 73.82,-138.78 63.98,-138.78 63.98,-172.24
  region: 93.5,-172.25 93.5,-138.77 83.66,-138.77 83.66,-172.25
  region: 113.19,-172.24 113.19,-138.78 103.35,-138.78 103.35,-172.24
  region: 172.24,-103.35 138.78,-103.35 138.78,-113.19 172.24,-113.19
  region: 172.24,-83.66 138.78,-83.66 138.78,-93.5 172.24,-93.5
  region: 172.24,-63.98 138.78,-63.98 138.78,-73.82 172.24,-73.82
  region: 172.24,-44.29 138.78,-44.29 138.78,-54.13 172.24,-54.13
  region: 172.24,-24.61 138.78,-24.61 138.78,-34.45 172.24,-34.45
  region: 172.24,-4.92 138.78,-4.92 138.78,-14.76 172.24,-14.76
  region: 172.24,14.76 138.78,14.76 138.78,4.92 172.24,4.92
  region: 172.24,34.45 138.78,34.45 138.78,24.61 172.24,24.61
  region: 172.24,54.13 138.78,54.13 138.78,44.29 172.24,44.29
  region: 172.24,73.82 138.78,73.82 138.78,63.98 172.24,63.98
  region: 172.24,93.5 138.78,93.5 138.78,83.66 172.24,83.66
  region: 172.24,113.19 138.78,113.19 138.78,103.35 172.24,103.35
  region: 103.35,172.24 103.35,138.78 113.19,138.78 113.19,172.24
  region: 83.66,172.25 83.66,138.77 93.5,138.77 93.5,172.25
  region: 63.98,172.24 63.98,138.78 73.82,138.78 73.82,172.24
  region: 44.29,172.24 44.29,138.78 54.13,138.78 54.13,172.24
  region: 24.61,172.24 24.61,138.78 34.45,138.78 34.45,172.24
  region: 4.92,172.24 4.92,138.78 14.76,138.78 14.76,172.24
  region: -14.76,172.24 -14.76,138.78 -4.92,138.78 -4.92,172.24
  region: -34.45,172.24 -34.45,138.78 -24.61,138.78 -24.61,172.24
  region: -54.13,172.24 -54.13,138.78 -44.29,138.78 -44.29,172.24
  region: -73.82,172.24 -73.82,138.78 -63.98,138.78 -63.98,172.24
  region: -93.5,172.25 -93.5,138.77 -83.66,138.77 -83.66,172.25
  region: -113.19,172.24 -113.19,138.78 -103.35,138.78 -103.35,172.24
Top Solder:
  rectangle: -175.2,100.39 -135.83,116.14
  rectangle: -175.2,80.71 -135.83,96.46
  rectangle: -175.2,61.02 -135.83,76.77
  rectangle: -175.2,41.34 -135.83,57.09
  rectangle: -175.2,21.65 -135.83,37.4
  rectangle: -175.2,1.97 -135.83,17.72
  rectangle: -175.2,-17.72 -135.83,-1.97
  rectangle: -175.2,-37.4 -135.83,-21.65
  rectangle: -175.2,-57.09 -135.83,-41.34
  rectangle: -175.2,-76.77 -135.83,-61.02
  rectangle: -175.2,-96.46 -135.83,-80.71
  rectangle: -175.2,-116.14 -135.83,-100.39
  region: -100.39,-175.2 -100.39,-135.83 -116.14,-135.83 -116.14,-175.2
  region: -80.71,-175.2 -80.71,-135.83 -96.46,-135.83 -96.46,-175.2
  region: -61.02,-175.2 -61.02,-135.83 -76.77,-135.83 -76.77,-175.2
  region: -41.34,-175.2 -41.34,-135.83 -57.09,-135.83 -57.09,-175.2
  region: -21.65,-175.2 -21.65,-135.83 -37.4,-135.83 -37.4,-175.2
  region: -1.97,-175.2 -1.97,-135.83 -17.72,-135.83 -17.72,-175.2
  region: 17.72,-175.2 17.72,-135.83 1.97,-135.83 1.97,-175.2
  region: 37.4,-175.2 37.4,-135.83 21.65,-135.83 21.65,-175.2
  region: 57.09,-175.2 57.09,-135.83 41.34,-135.83 41.34,-175.2
  region: 76.77,-175.2 76.77,-135.83 61.02,-135.83 61.02,-175.2
  region: 96.46,-175.2 96.46,-135.83 80.71,-135.83 80.71,-175.2
  region: 116.14,-175.2 116.14,-135.83 100.39,-135.83 100.39,-175.2
  region: 175.2,-100.39 135.83,-100.39 135.83,-116.14 175.2,-116.14
  region: 175.2,-80.71 135.83,-80.71 135.83,-96.46 175.2,-96.46
  region: 175.2,-61.02 135.83,-61.02 135.83,-76.77 175.2,-76.77
  region: 175.2,-41.34 135.83,-41.34 135.83,-57.09 175.2,-57.09
  region: 175.2,-21.65 135.83,-21.65 135.83,-37.4 175.2,-37.4
  region: 175.2,-1.97 135.83,-1.97 135.83,-17.72 175.2,-17.72
  region: 175.2,17.72 135.83,17.72 135.83,1.97 175.2,1.97
  region: 175.2,37.4 135.83,37.4 135.83,21.65 175.2,21.65
  region: 175.2,57.09 135.83,57.09 135.83,41.34 175.2,41.34
  region: 175.2,76.77 135.83,76.77 135.83,61.02 175.2,61.02
  region: 175.2,96.46 135.83,96.46 135.83,80.71 175.2,80.71
  region: 175.2,116.14 135.83,116.14 135.83,100.39 175.2,100.39
  region: 100.39,175.2 100.39,135.83 116.14,135.83 116.14,175.2
  region: 80.71,175.2 80.71,135.83 96.46,135.83 96.46,175.2
  region: 61.02,175.2 61.02,135.83 76.77,135.83 76.77,175.2
  region: 41.34,175.2 41.34,135.83 57.09,135.83 57.09,175.2
  region: 21.65,175.2 21.65,135.83 37.4,135.83 37.4,175.2
  region: 1.97,175.2 1.97,135.83 17.72,135.83 17.72,175.2
  region: -17.72,175.2 -17.72,135.83 -1.97,135.83 -1.97,175.2
  region: -37.4,175.2 -37.4,135.83 -21.65,135.83 -21.65,175.2
  region: -57.09,175.2 -57.09,135.83 -41.34,135.83 -41.34,175.2
  region: -76.77,175.2 -76.77,135.83 -61.02,135.83 -61.02,175.2
  region: -96.46,175.2 -96.46,135.83 -80.71,135.83 -80.71,175.2
  region: -116.14,175.2 -116.14,135.83 -100.39,135.83 -100.39,175.2
Mechanical 16:
  rectangle: -166.34,104.33 -136.81,112.2
  rectangle: -166.34,84.65 -136.81,92.52
  rectangle: -166.34,64.96 -136.81,72.83
  rectangle: -166.34,45.28 -136.81,53.15
  rectangle: -166.34,25.59 -136.81,33.46
  rectangle: -166.34,5.91 -136.81,13.78
  rectangle: -166.34,-13.78 -136.81,-5.91
  rectangle: -166.34,-33.46 -136.81,-25.59
  rectangle: -166.34,-53.15 -136.81,-45.28
  rectangle: -166.34,-72.83 -136.81,-64.96
  rectangle: -166.34,-92.52 -136.81,-84.65
  rectangle: -166.34,-112.2 -136.81,-104.33
  region: -104.33,-166.34 -104.33,-136.81 -112.2,-136.81 -112.2,-166.34
  region: -84.65,-166.34 -84.65,-136.81 -92.52,-136.81 -92.52,-166.34
  region: -64.96,-166.34 -64.96,-136.81 -72.83,-136.81 -72.83,-166.34
  region: -45.28,-166.34 -45.28,-136.81 -53.15,-136.81 -53.15,-166.34
  region: -25.59,-166.34 -25.59,-136.81 -33.46,-136.81 -33.46,-166.34
  region: -5.91,-166.34 -5.91,-136.81 -13.78,-136.81 -13.78,-166.34
  region: 13.78,-166.34 13.78,-136.81 5.91,-136.81 5.91,-166.34
  region: 33.46,-166.34 33.46,-136.81 25.59,-136.81 25.59,-166.34
  region: 53.15,-166.34 53.15,-136.81 45.28,-136.81 45.28,-166.34
  region: 72.83,-166.34 72.83,-136.81 64.96,-136.81 64.96,-166.34
  region: 92.52,-166.34 92.52,-136.81 84.65,-136.81 84.65,-166.34
  region: 112.2,-166.34 112.2,-136.81 104.33,-136.81 104.33,-166.34
  region: 166.34,-104.33 136.81,-104.33 136.81,-112.2 166.34,-112.2
  region: 166.34,-84.65 136.81,-84.65 136.81,-92.52 166.34,-92.52
  region: 166.34,-64.96 136.81,-64.96 136.81,-72.83 166.34,-72.83
  region: 166.34,-45.28 136.81,-45.28 136.81,-53.15 166.34,-53.15
  region: 166.34,-25.59 136.81,-25.59 136.81,-33.46 166.34,-33.46
  region: 166.34,-5.91 136.81,-5.91 136.81,-13.78 166.34,-13.78
  region: 166.34,13.78 136.81,13.78 136.81,5.91 166.34,5.91
  region: 166.34,33.46 136.81,33.46 136.81,25.59 166.34,25.59
  region: 166.34,53.15 136.81,53.15 136.81,45.28 166.34,45.28
  region: 166.34,72.83 136.81,72.83 136.81,64.96 166.34,64.96
  region: 166.34,92.52 136.81,92.52 136.81,84.65 166.34,84.65
  region: 166.34,112.2 136.81,112.2 136.81,104.33 166.34,104.33
  region: 104.33,166.34 104.33,136.81 112.2,136.81 112.2,166.34
  region: 84.65,166.34 84.65,136.81 92.52,136.81 92.52,166.34
  region: 64.96,166.34 64.96,136.81 72.83,136.81 72.83,166.34
  region: 45.28,166.34 45.28,136.81 53.15,136.81 53.15,166.34
  region: 25.59,166.34 25.59,136.81 33.46,136.81 33.46,166.34
  region: 5.91,166.34 5.91,136.81 13.78,136.81 13.78,166.34
  region: -13.78,166.34 -13.78,136.81 -5.91,136.81 -5.91,166.34
  region: -33.46,166.34 -33.46,136.81 -25.59,136.81 -25.59,166.34
  region: -53.15,166.34 -53.15,136.81 -45.28,136.81 -45.28,166.34
  region: -72.83,166.34 -72.83,136.81 -64.96,136.81 -64.96,166.34
  region: -92.52,166.34 -92.52,136.81 -84.65,136.81 -84.65,166.34
  region: -112.2,166.34 -112.2,136.81 -104.33,136.81 -104.33,166.34
  lines w8: -133.86,-122.05 -133.86,122.05 ; -122.05,-133.86 122.05,-133.86 ; -122.05,133.86 122.05,133.86 ; 133.86,-122.05 133.86,122.05